# Altium footprint library GRM0335C1E100JA01D.PcbLib: 3 footprints
Each footprint in its own frame and in the unit in brackets; x right, y up, seen from the top. Pads: shape width x height; smd on the part's side, far side on the other; paste and mask are expansions set on the pad; w line width, h text height; cw(c..) or ccw(c..) is an arc to the next point about the centre after c.
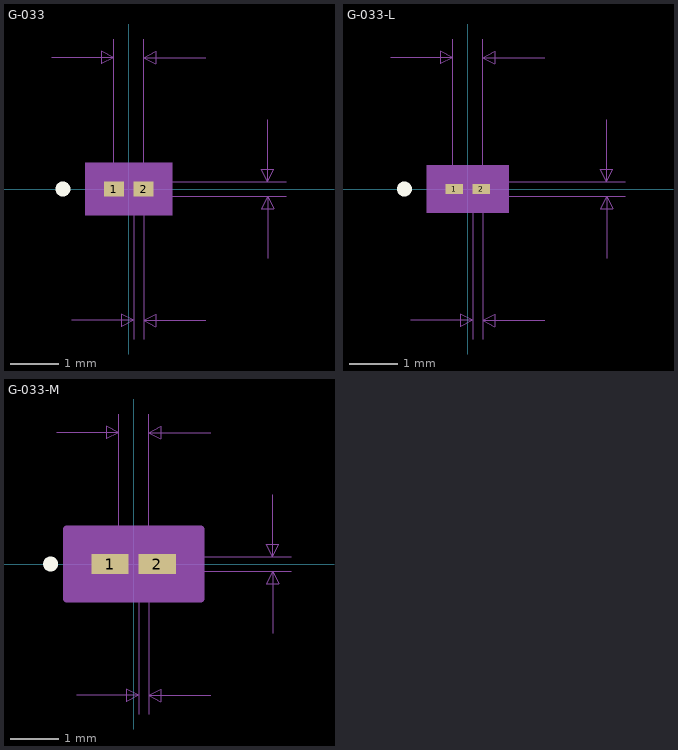
[diagram p0: the footprints below, top view; thin cyan lines are the x and y axes]

## G-033 [mil]
pads (2):
  rect 16x12 smd: 1(-12,0) 2(12,0)
Top Overlay:
  circle w6: c-53,0 r3
Mechanical 5:
  region: 35,-21 -35,-21 -35,21 35,21
Mechanical 7:
  lines w1: -62,106 -12,106 ; -46,-106 4,-106 ; -12,0 -12,121 ; 0,-6 127,-6 ; 0,6 127,6 ; 4,-121 4,0 ; 12,-121 12,0 12,121 ; 62,-106 12,-106 ; 62,106 12,106 ; 112,-56 112,-6 ; 112,56 112,6 ; -12,106 -22,111 -22,101 -12,106 ; 4,-106 -6,-101 -6,-111 4,-106 ; 12,-106 22,-101 22,-111 12,-106 ; 12,106 22,111 22,101 12,106 ; 112,-6 107,-16 117,-16 112,-6 ; 112,6 107,16 117,16 112,6
  text "Default Padstyle: RX16Y12D0T" at -350,-276 h50
  text "Alternate 1 Padstyle: OX60Y90D30P" at -412.5,-376 h50
  text "Alternate 2 Padstyle: OX90Y60D30P" at -412.5,-476 h50
  text "0.012in/0.305mm" at 132,-12.5 h25
  text "0.024in/0.61mm" at -87.5,126 h25
  text "0.008in/0.203mm" at -85.75,-151 h25
Mechanical 13:
  circle w0: c-7,0 r3
  lines w1: -12,-6 -12,6 ; -12,-6 -4,-6 -4,6 -12,6 ; -12,-6 12,-6 ; -12,-6 -12,6 ; -12,6 12,6 ; 12,-6 4,-6 4,6 12,6 ; 12,-6 12,6 ; 12,-6 12,6
Mechanical 15:
  region: 30,-16 -30,-16 -30,16 30,16
  lines w6: -30,-16 -30,16 30,16 30,-16 -30,-16
3D body: height 10, standoff 0, extent 0,0 10,10

## G-033-L [mil]
pads (2):
  rect 14x8 smd paste+0 mask+0: 1(-11,0) 2(11,0)
Top Overlay:
  circle w6: c-51,0 r3
Mechanical 5:
  region: 33,-19 -33,-19 -33,19 33,19
Mechanical 7:
  lines w1: -62,106 -12,106 ; -46,-106 4,-106 ; -12,0 -12,121 ; 0,-6 127,-6 ; 0,6 127,6 ; 4,-121 4,0 ; 12,-121 12,0 12,121 ; 62,-106 12,-106 ; 62,106 12,106 ; 112,-56 112,-6 ; 112,56 112,6 ; -12,106 -22,111 -22,101 -12,106 ; 4,-106 -6,-101 -6,-111 4,-106 ; 12,-106 22,-101 22,-111 12,-106 ; 12,106 22,111 22,101 12,106 ; 112,-6 107,-16 117,-16 112,-6 ; 112,6 107,16 117,16 112,6
  text "Default Padstyle: RX14Y8D0T" at -337.5,-274 h50
  text "Alternate 1 Padstyle: OX60Y90D30P" at -412.5,-374 h50
  text "Alternate 2 Padstyle: OX90Y60D30P" at -412.5,-474 h50
  text "0.012in/0.305mm" at 132,-12.5 h25
  text "0.024in/0.61mm" at -87.5,126 h25
  text "0.008in/0.203mm" at -85.75,-151 h25
Mechanical 13:
  circle w0: c-6,0 r3
  lines w1: -12,-6 -12,6 ; -12,-6 -4,-6 -4,6 -12,6 ; -12,-6 12,-6 ; -12,-6 -12,6 ; -12,6 12,6 ; 12,-6 4,-6 4,6 12,6 ; 12,-6 12,6 ; 12,-6 12,6
Mechanical 15:
  region: 22,-8 -22,-8 -22,8 22,8
  lines w6: -22,-8 -22,8 22,8 22,-8 -22,-8
3D body: height 10, standoff 0, extent 0,0 10,10

## G-033-M [mil]
pads (2):
  rect 30x16 smd paste+0 mask+0: 1(-19,0) 2(19,0)
Top Overlay:
  circle w6: c-67,0 r3
Mechanical 5:
  region: 49,-23 -49,-23 -49,23 49,23
Mechanical 7:
  lines w1: -62,106 -12,106 ; -46,-106 4,-106 ; -12,0 -12,121 ; 0,-6 127,-6 ; 0,6 127,6 ; 4,-121 4,0 ; 12,-121 12,0 12,121 ; 62,-106 12,-106 ; 62,106 12,106 ; 112,-56 112,-6 ; 112,56 112,6 ; -12,106 -22,111 -22,101 -12,106 ; 4,-106 -6,-101 -6,-111 4,-106 ; 12,-106 22,-101 22,-111 12,-106 ; 12,106 22,111 22,101 12,106 ; 112,-6 107,-16 117,-16 112,-6 ; 112,6 107,16 117,16 112,6
  text "Default Padstyle: RX30Y16D0T" at -350,-278 h50
  text "Alternate 1 Padstyle: OX60Y90D30P" at -412.5,-378 h50
  text "Alternate 2 Padstyle: OX90Y60D30P" at -412.5,-478 h50
  text "0.012in/0.305mm" at 132,-12.5 h25
  text "0.024in/0.61mm" at -87.5,126 h25
  text "0.008in/0.203mm" at -85.75,-151 h25
Mechanical 13:
  circle w0: c-14,0 r3
  lines w1: -12,-6 -12,6 ; -12,-6 -4,-6 -4,6 -12,6 ; -12,-6 12,-6 ; -12,-6 -12,6 ; -12,6 12,6 ; 12,-6 4,-6 4,6 12,6 ; 12,-6 12,6 ; 12,-6 12,6
Mechanical 15:
  region: 54,-28 -54,-28 -54,28 54,28
  lines w6: -54,-28 -54,28 54,28 54,-28 -54,-28
3D body: height 10, standoff 0, extent 0,0 10,10